# Altium schematic symbol library 1622212-1.SchLib: 1 symbol
Pins are listed as number, name and electrical type; pins without a type are passive.

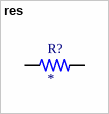
[diagram p0: symbol res]

## res
designator R?
res 1/4 w; MP: 1622212-1; MF: {'manufacturer': u'TE Connectivity'}; Availability: Unavailable; Value: *; Price: None; Package: None
footprint RESAD640W45L370D200
pins: 1, 2